# EAGLE library part 75869-332LF (library 75869-332LF)
CONN HEADER 8POS DUAL VERT PCB Check availability <https://pricing.snapeda.com/parts/75869-332LF/Amphenol/view-part?ref=eda>
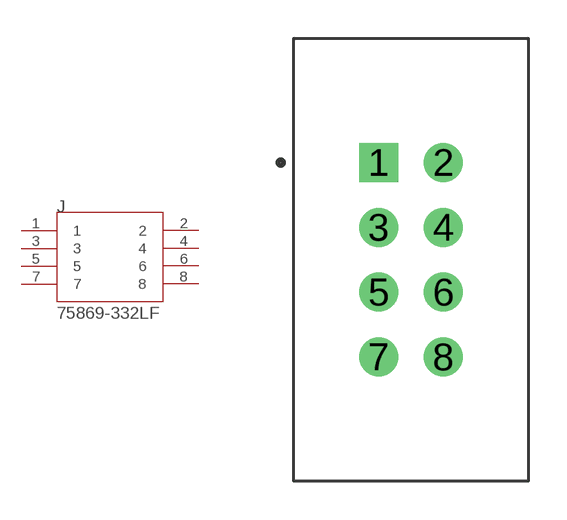
[diagram p0: symbol with the pads of AMPHENOL_75869-332LF; footprint AMPHENOL_75869-332LF]

Designator prefix J

## 75869-332LF (Availability: In Stock; Description: Conn Shrouded Header HDR 8 POS 2.54mm Solder ST Thru-Hole Tube; MF: Amphenol; MP: 75869-332LF; Package: None; Price: None; Purchase-URL: https://pricing.snapeda.com/search?q=75869-332LF&ref=eda)  [AMPHENOL_75869-332LF]
1  1  pas
2  2  pas
3  3  pas
4  4  pas
5  5  pas
6  6  pas
7  7  pas
8  8  pas

## Footprint AMPHENOL_75869-332LF (pad centres in mm)
drill 1.02 pad 1.53 square: 1 -1.27,3.81
drill 1.02 pad 1.53: 2 1.27,3.81; 3 -1.27,1.27; 4 1.27,1.27; 5 -1.27,-1.27; 6 1.27,-1.27; 7 -1.27,-3.81; 8 1.27,-3.81